# Altium schematic symbol library SCH - MCU - STM32 - ST MICROELECTRONICS STM32C031K(4-6)TX LQFP32.SchLib: 1 symbol
Pins are listed as number, name and electrical type; pins without a type are passive.

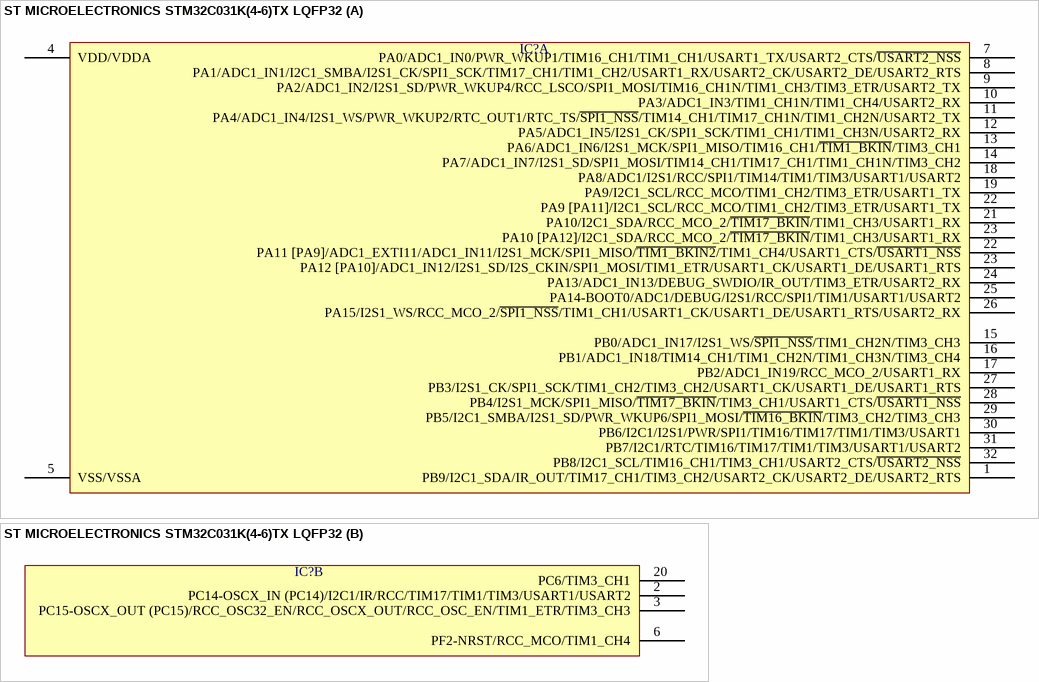
[diagram p0: symbol ST MICROELECTRONICS STM32C031K(4-6)TX LQFP32]

## ST MICROELECTRONICS STM32C031K(4-6)TX LQFP32
designator IC?  (value not drawn)
part A pins: 1 PB9/I2C1_SDA/IR_OUT/TIM17_CH1/TIM3_CH2/USART2_CK/USART2_DE/USART2_RTS, 4 VDD/VDDA, 5 VSS/VSSA, 7 PA0/ADC1_IN0/PWR_WKUP1/TIM16_CH1/TIM1_CH1/USART1_TX/USART2_CTS/~{USART2_NSS}, 8 PA1/ADC1_IN1/I2C1_SMBA/I2S1_CK/SPI1_SCK/TIM17_CH1/TIM1_CH2/USART1_RX/USART2_CK/USART2_DE/USART2_RTS, 9 PA2/ADC1_IN2/I2S1_SD/PWR_WKUP4/RCC_LSCO/SPI1_MOSI/TIM16_CH1N/TIM1_CH3/TIM3_ETR/USART2_TX, 10 PA3/ADC1_IN3/TIM1_CH1N/TIM1_CH4/USART2_RX, 11 PA4/ADC1_IN4/I2S1_WS/PWR_WKUP2/RTC_OUT1/RTC_TS/~{SPI1_NSS}/TIM14_CH1/TIM17_CH1N/TIM1_CH2N/USART2_TX, 12 PA5/ADC1_IN5/I2S1_CK/SPI1_SCK/TIM1_CH1/TIM1_CH3N/USART2_RX, 13 PA6/ADC1_IN6/I2S1_MCK/SPI1_MISO/TIM16_CH1/~{TIM1_BKIN}/TIM3_CH1, 14 PA7/ADC1_IN7/I2S1_SD/SPI1_MOSI/TIM14_CH1/TIM17_CH1/TIM1_CH1N/TIM3_CH2, 15 PB0/ADC1_IN17/I2S1_WS/~{SPI1_NSS}/TIM1_CH2N/TIM3_CH3, 16 PB1/ADC1_IN18/TIM14_CH1/TIM1_CH2N/TIM1_CH3N/TIM3_CH4, 17 PB2/ADC1_IN19/RCC_MCO_2/USART1_RX, 18 PA8/ADC1/I2S1/RCC/SPI1/TIM14/TIM1/TIM3/USART1/USART2, 19 PA9/I2C1_SCL/RCC_MCO/TIM1_CH2/TIM3_ETR/USART1_TX, 21 PA10/I2C1_SDA/RCC_MCO_2/~{TIM17_BKIN}/TIM1_CH3/USART1_RX, 22 PA9 [PA11]/I2C1_SCL/RCC_MCO/TIM1_CH2/TIM3_ETR/USART1_TX, 22 PA11 [PA9]/ADC1_EXTI11/ADC1_IN11/I2S1_MCK/SPI1_MISO/~{TIM1_BKIN2}/TIM1_CH4/USART1_CTS/~{USART1_NSS}, 23 PA10 [PA12]/I2C1_SDA/RCC_MCO_2/~{TIM17_BKIN}/TIM1_CH3/USART1_RX, 23 PA12 [PA10]/ADC1_IN12/I2S1_SD/I2S_CKIN/SPI1_MOSI/TIM1_ETR/USART1_CK/USART1_DE/USART1_RTS, 24 PA13/ADC1_IN13/DEBUG_SWDIO/IR_OUT/TIM3_ETR/USART2_RX, 25 PA14-BOOT0/ADC1/DEBUG/I2S1/RCC/SPI1/TIM1/USART1/USART2, 26 PA15/I2S1_WS/RCC_MCO_2/~{SPI1_NSS}/TIM1_CH1/USART1_CK/USART1_DE/USART1_RTS/USART2_RX, 27 PB3/I2S1_CK/SPI1_SCK/TIM1_CH2/TIM3_CH2/USART1_CK/USART1_DE/USART1_RTS, 28 PB4/I2S1_MCK/SPI1_MISO/~{TIM17_BKIN}/TIM3_CH1/USART1_CTS/~{USART1_NSS}, 29 PB5/I2C1_SMBA/I2S1_SD/PWR_WKUP6/SPI1_MOSI/~{TIM16_BKIN}/TIM3_CH2/TIM3_CH3, 30 PB6/I2C1/I2S1/PWR/SPI1/TIM16/TIM17/TIM1/TIM3/USART1, 31 PB7/I2C1/RTC/TIM16/TIM17/TIM1/TIM3/USART1/USART2, 32 PB8/I2C1_SCL/TIM16_CH1/TIM3_CH1/USART2_CTS/~{USART2_NSS}
part B pins: 2 PC14-OSCX_IN (PC14)/I2C1/IR/RCC/TIM17/TIM1/TIM3/USART1/USART2, 3 PC15-OSCX_OUT (PC15)/RCC_OSC32_EN/RCC_OSCX_OUT/RCC_OSC_EN/TIM1_ETR/TIM3_CH3, 6 PF2-NRST/RCC_MCO/TIM1_CH4, 20 PC6/TIM3_CH1